# Altium schematic symbol library BFR740L3RH.SchLib: 1 symbol
Pins are listed as number, name and electrical type; pins without a type are passive.

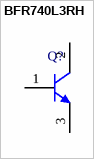
[diagram p0: symbol BFR740L3RH]

## BFR740L3RH
designator Q?
NPN Silicon Germanium RF Transistor, 4 V VCEO, 30 mA IC, 24.5 dB Gmax, TSLP-3-9, Green; Manufacturer: Infineon; PartNumber: BFR740L3RH; Gmax (typ): 24.5 dB; Green: yes; Group: For Modules in TSLP-package; IC (max): 30 mA; NFmin (typ): 0.5 dB; Ptot (max): 160 mW; VCEO (max): 4 V; DatasheetVersion: Rev. 2.0; PackageReference: TSLP-3-9; PackageDescription: 3-Pin Thin Small Leadless Package, 0.6 x 1 mm Body; Supplier 1: Mouser; Supplier Part Number 1: N/A; Halogen-free: yes; Mounting Technology: Surface Mount; ComponentLink1Description: Manufacturer URL; ComponentLink1URL: http://www.infineon.com/; ComponentLink2Description: Datasheet; ComponentLink2URL: http://www.infineon.com/dgdl/bfr740l3rh.pdf?folderId=db3a30431400ef68011425b291f205c5&fileId=db3a30431400ef680114273ae8030703&location=en.Products.RF.RF_Transistors_.Ultra_Low_Noise_SiGe_C_Transistors_for_use_up_to_12_GHz.DATASHEET.bfr740l3rh.pdf; ComponentLink3Description: Package Specification; ComponentLink3URL: http://www.infineon.com/dgdl/TSLP-3-9-Package_Overview.pdf?folderId=db3a304319bc939a0119becdb18f008a&fileId=db3a304319bc939a0119bedef5a600a3
footprint INF-TSLP-3-9_V (TSLP, 3-Leads, Body 1x0.6 mm)
pins: 1 B, 2 C, 3 E